# EAGLE library part NACHTELK_HEADERCONNECTORS_2X8 (library NachtElk_HeaderConnectors)
Nacht Elk. - Header Connectors Ekrem Turan Fırat Nacht Elk. - Header Connectors 2x8 Female or Male Pin Spacing: 2.54mm Mount Type: DIP Operating Temperature: -40°C up to 105°C 17.02.2022
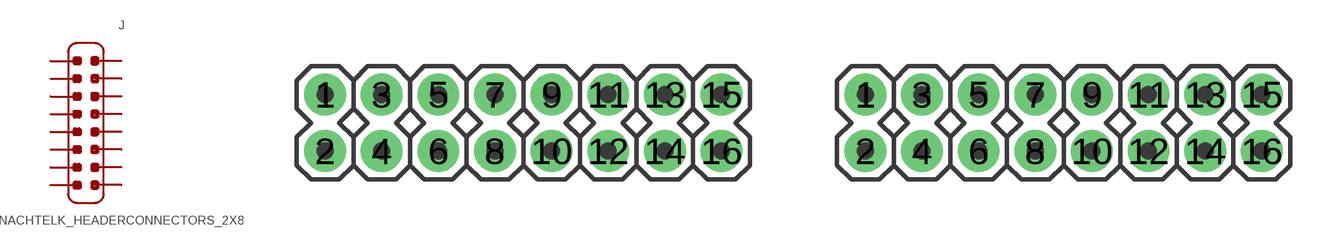
[diagram p18: symbol with the pads of HEADER_2X8; footprints HEADER_2X8, HEADER_2X8F]

Designator prefix J

## NACHTELK_HEADERCONNECTORS_2X8_MALE (MOUNT-TYPE: DIP; TEMPERATURE: -40°C up to 105°C; TYPE: Male; VALUE: 2x8)  [HEADER_2X8]
1  1
2  2
3  3
4  4
5  5
6  6
7  7
8  8
9  9
10  10
11  11
12  12
13  13
14  14
15  15
16  16

## NACHTELK_HEADERCONNECTORS_2X8_FEMALE (MOUNT-TYPE: DIP; TEMPERATURE: -40°C up to 105°C; TYPE: Female; VALUE: 2x8)  [HEADER_2X8F]
Pads as for HEADER_2X8

## Footprint HEADER_2X8 (pad centres in mm)
Nacht Elk. - Header Connectors Ekrem Turan Fırat 17.02.2022
drill 1.016 pad 1.88: 1 0,0; 2 0,-2.54; 3 2.54,0; 4 2.54,-2.54; 5 5.08,0; 6 5.08,-2.54; 7 7.62,0; 8 7.62,-2.54; 9 10.16,0; 10 10.16,-2.54; 11 12.7,0; 12 12.7,-2.54; 13 15.24,0; 14 15.24,-2.54; 15 17.78,0; 16 17.78,-2.54

## Footprint HEADER_2X8F (pad centres in mm)
Nacht Elk. - Header Connectors Ekrem Turan Fırat 17.02.2022
drill 1.016 pad 1.88: 1 0,0; 2 0,-2.54; 3 2.54,0; 4 2.54,-2.54; 5 5.08,0; 6 5.08,-2.54; 7 7.62,0; 8 7.62,-2.54; 9 10.16,0; 10 10.16,-2.54; 11 12.7,0; 12 12.7,-2.54; 13 15.24,0; 14 15.24,-2.54; 15 17.78,0; 16 17.78,-2.54